# EAGLE library part SPEEDOSTECKER (library Kolja)
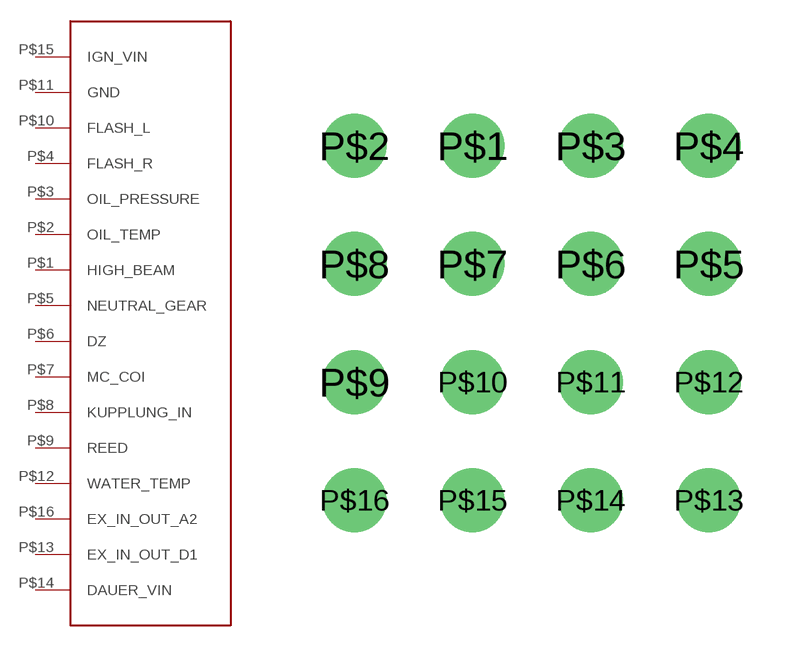
[diagram p9: symbol with the pads of SPEEDOSTECKER; footprint SPEEDOSTECKER]

Designator prefix -

## SPEEDOSTECKER  [SPEEDOSTECKER]
P$1  HIGH_BEAM  in
P$2  OIL_TEMP  in
P$3  OIL_PRESSURE  in
P$4  FLASH_R  in
P$5  NEUTRAL_GEAR  in
P$6  DZ  in
P$7  MC_COI  out
P$8  KUPPLUNG_IN  in
P$9  REED  in
P$10  FLASH_L  in
P$11  GND  pwr
P$12  WATER_TEMP  in
P$13  EX_IN_OUT_D1
P$14  DAUER_VIN
P$15  IGN_VIN  pwr
P$16  EX_IN_OUT_A2

## Footprint SPEEDOSTECKER (pad centres in mm)
drill 1 pad 1.9: P$1 -2,5.5; P$2 -5.5,5.5; P$3 1.5,5.5; P$4 5,5.5; P$5 5,2; P$6 1.5,2; P$7 -2,2; P$8 -5.5,2; P$9 -5.5,-1.5; P$10 -2,-1.5; P$11 1.5,-1.5; P$12 5,-1.5; P$13 5,-5; P$14 1.5,-5; P$15 -2,-5; P$16 -5.5,-5